# Altium schematic symbol library C_pol_smd.Schlib: 1 symbol
Pins are listed as number, name and electrical type; pins without a type are passive.

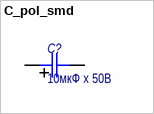
[diagram p0: symbol C_pol_smd]

## C_pol_smd
designator C?, comment 10мкФ х 50В
Поляризованный конеднсатор для поверхностного монтажа; Назначение: Поляризованный чип-конденсатор; Наименование: К53-68 «ВП»; Потребление, Вт: 0; Value: 10мкФ х 50В
footprint C_SMD_SIZE_B
footprint C_SMD_size_C
footprint C_SMD_size_D
pins: 1, 2